# Altium integrated library TF13BA-6S-0.4SH_800_.IntLib: 1 symbol
Pins are listed as number, name and electrical type; pins without a type are passive.

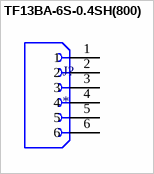
[diagram p0: symbol TF13BA-6S-0.4SH(800)]

## TF13BA-6S-0.4SH(800)
designator J?
MP: TF13BA-6S-0.4SH(800); Package: None; Price: None; Value: *; Availability: Unavailable
footprint HRS_TF13BA-6S-0.4SH(800)
pins: 1, 2, 3, 4, 5, 6